# EAGLE library part LM74700Q?* (library LM74700)
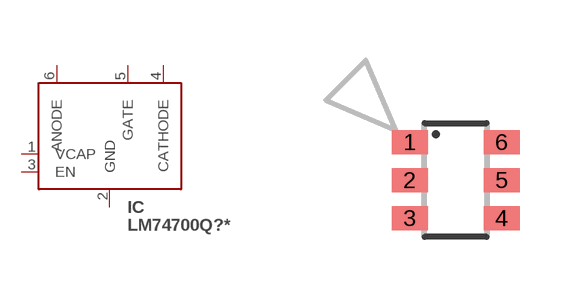
[diagram p0: symbol with the pads of SOT23-6; footprint SOT23-6]

Designator prefix IC

## LM74700QDBVRQ1 (MARK: M747; MF: Texas Instruments; MPN: LM74700QDBVRQ1), LM74700QDBVTQ1 (MARK: M747; MF: Texas Instruments; MPN: LM74700QDBVTQ1)  [SOT23-6]
1  VCAP  in
2  GND  in
3  EN  in
4  CATHODE  in
5  GATE  in
6  ANODE  in

## LM74700QDDFRQ1 (MARK: 747F; MF: Texas Instruments; MPN: LM74700QDDFRQ1)  [SOT23-6]
Pads as for SOT23-6

## Footprint SOT23-6 (pad centres in mm)
Small Outline Transistor 6 lead
smd 0.9 x 0.6: 1 -1.15,0.95; 2 -1.15,0; 3 -1.15,-0.95; 4 1.15,-0.95; 5 1.15,0; 6 1.15,0.95